# EAGLE library part PIC12F1822 (library jason_eagle6)
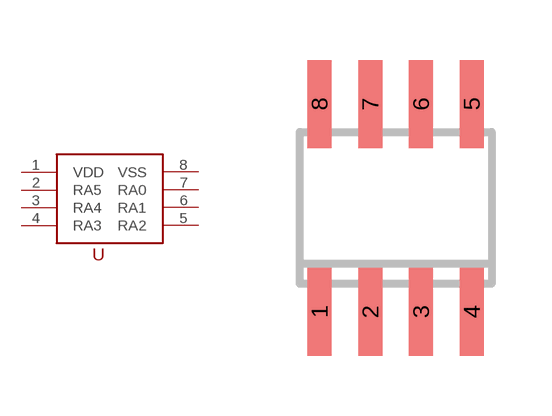
[diagram p59: symbol with the pads of SO08; footprint SO08]

Designator prefix -

## PIC12F1822  [SO08]
1  VDD  pwr
2  RA5
3  RA4
4  RA3
5  RA2
6  RA1
7  RA0
8  VSS  pwr

## Footprint SO08 (pad centres in mm)
Small Outline Package 8 NS Package M08A
smd 0.6 x 2.2: 1 -1.905,-2.6; 2 -0.635,-2.6; 3 0.635,-2.6; 4 1.905,-2.6; 5 1.905,2.6; 6 0.635,2.6; 7 -0.635,2.6; 8 -1.905,2.6